# Altium schematic symbol library Shield.Schlib: 1 symbol
Pins are listed as number, name and electrical type; pins without a type are passive.

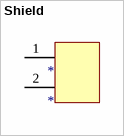
[diagram p0: symbol Shield]

## Shield
designator *
pins: 1, 2